# Altium footprint library SO016.PcbLib: 1 footprints
Each footprint in its own frame and in the unit in brackets; x right, y up, seen from the top. Pads: shape width x height; smd on the part's side, far side on the other; paste and mask are expansions set on the pad; w line width, h text height; cw(c..) or ccw(c..) is an arc to the next point about the centre after c.
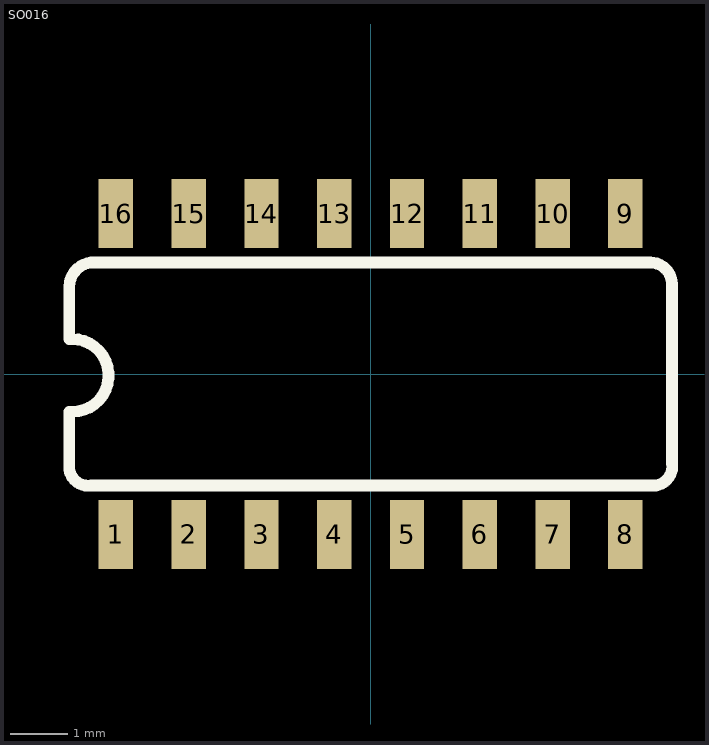
[diagram p0: the footprint, top view; thin cyan lines are the x and y axes]

## SO016 [mm]
pads (16):
  rect 0.6x1.2 smd: 1(-4.445,-2.8) 2(-3.175,-2.8) 3(-1.905,-2.8) 4(-0.635,-2.8) 5(0.635,-2.8) 6(1.905,-2.8) 7(3.175,-2.8) 8(4.445,-2.8) 9(4.445,2.8) 10(3.175,2.8) 11(1.905,2.8) 12(0.635,2.8) 13(-0.635,2.8) 14(-1.905,2.8) 15(-3.175,2.8) 16(-4.445,2.8)
Top Overlay:
  lines w0.203: -5.257,-1.668 ccw(c-4.927,-1.615) -4.874,-1.946 ; -5.258,-1.665 -5.258,-0.66 ; -5.258,0.61 -5.258,1.453 ; -5.257,1.463 cw(c-4.827,1.515) -4.88,1.946 ; -5.207,-0.66 ccw(c-5.207,-0.025) -5.207,0.61 ; -4.877,-1.946 4.977,-1.946 ; -4.877,1.946 4.877,1.946 cw(c4.877,1.565) 5.258,1.565 5.258,-1.565 ; 4.979,-1.946 ccw(c4.927,-1.615) 5.257,-1.563
Mechanical 13:
  region: 4.699,2.29 4.198,2.29 4.198,3.302 4.699,3.302
  region: 3.429,2.289 2.924,2.289 2.924,3.302 3.429,3.302
  region: 2.159,2.289 1.653,2.289 1.653,3.302 2.159,3.302
  region: 0.889,2.29 0.382,2.29 0.382,3.302 0.889,3.302
  region: -0.381,2.289 -0.89,2.289 -0.89,3.302 -0.381,3.302
  region: -1.651,2.29 -2.163,2.29 -2.163,3.302 -1.651,3.302
  region: -2.921,2.288 -3.432,2.288 -3.432,3.302 -2.921,3.302
  region: -4.191,2.289 -4.705,2.289 -4.705,3.365 -4.191,3.365
  region: 4.699,-3.304 4.193,-3.304 4.193,-2.273 4.699,-2.273
  region: 3.429,-3.308 2.926,-3.308 2.926,-2.273 3.429,-2.273
  region: 2.159,-3.307 1.654,-3.307 1.654,-2.273 2.159,-2.273
  region: 0.889,-3.304 0.381,-3.304 0.381,-2.273 0.889,-2.273
  region: -0.381,-3.307 -0.89,-3.307 -0.89,-2.273 -0.381,-2.273
  region: -1.651,-3.307 -2.162,-3.307 -2.162,-2.273 -1.651,-2.273
  region: -2.921,-3.307 -3.434,-3.307 -3.434,-2.273 -2.921,-2.273
  region: -4.191,-3.307 -4.707,-3.307 -4.707,-2.273 -4.191,-2.273
3D body "step_temp.STEP": height 1.8, standoff 0, extent -5,-3 5,3